# EAGLE library part PMN28 (library Transistor - FET N Channel PMN28UN)
Name des Bauteiles: Trench FET PMN28UN N Channel Daten: VDSmax = 12 VDC , IDmax = 5,7 ADC , N Channel Artikelnummer:k061665 Datenblatt:
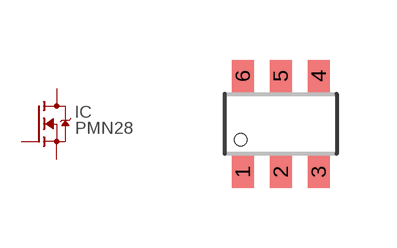
[diagram p0: symbol with the pads of SOT457; footprint SOT457]

Designator prefix IC

## PMN28-UN  [SOT457]
1  D  pas
2  D
3  G  pas
4  S  pas
5  D
6  D

## Footprint SOT457 (pad centres in mm)
smd 0.55 x 0.8: 1 -0.95,-1.2; 2 0,-1.2; 3 0.95,-1.2; 4 0.95,1.2; 5 0,1.2; 6 -0.95,1.2